# Altium footprint library RGBLED 3528SMD.PcbLib: 1 footprints
Each footprint in its own frame and in the unit in brackets; x right, y up, seen from the top. Pads: shape width x height; smd on the part's side, far side on the other; paste and mask are expansions set on the pad; w line width, h text height; cw(c..) or ccw(c..) is an arc to the next point about the centre after c.
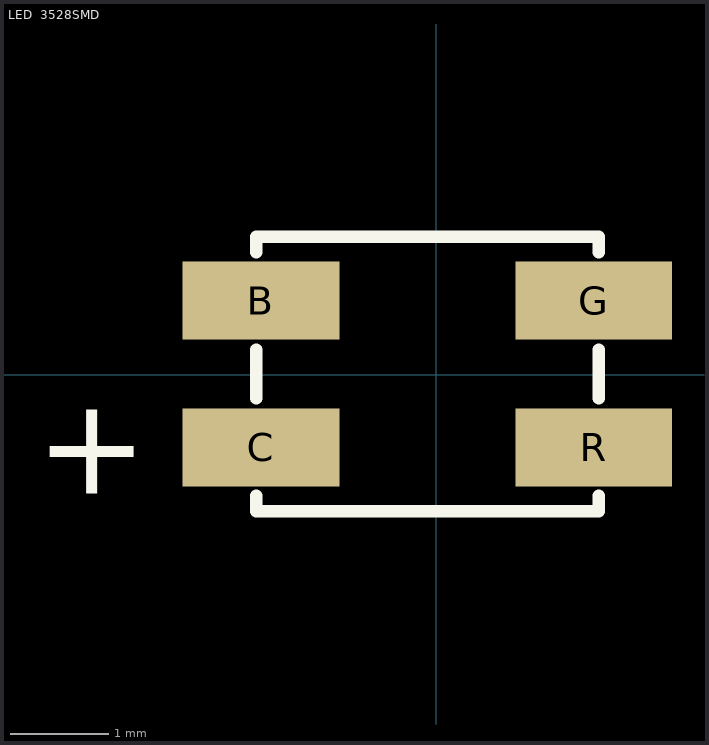
[diagram p0: the footprint, top view; thin cyan lines are the x and y axes]

## LED  3528SMD [mm]
pads (4):
  rect 1.6x0.8 smd: B(-1.79,0.758) C(-1.79,-0.742) G(1.61,0.758) R(1.61,-0.742)
Top Overlay:
  lines w0.127: -1.84,-1.234 -1.84,-1.392 1.66,-1.392 1.66,-1.234 ; -1.84,-0.242 -1.84,0.258 ; -1.84,1.25 -1.84,1.408 1.66,1.408 1.66,1.25 ; 1.66,-0.242 1.66,0.258
  text "+" at -4.09,-1.217 h1